# Altium footprint library QFN_TQFN_VQFN_LGA_LLC_LFCSP.PcbLib: 23 footprints (part 1 of 2)
Each footprint in its own frame and in the unit in brackets; x right, y up, seen from the top. Pads: shape width x height; smd on the part's side, far side on the other; paste and mask are expansions set on the pad; w line width, h text height; cw(c..) or ccw(c..) is an arc to the next point about the centre after c.
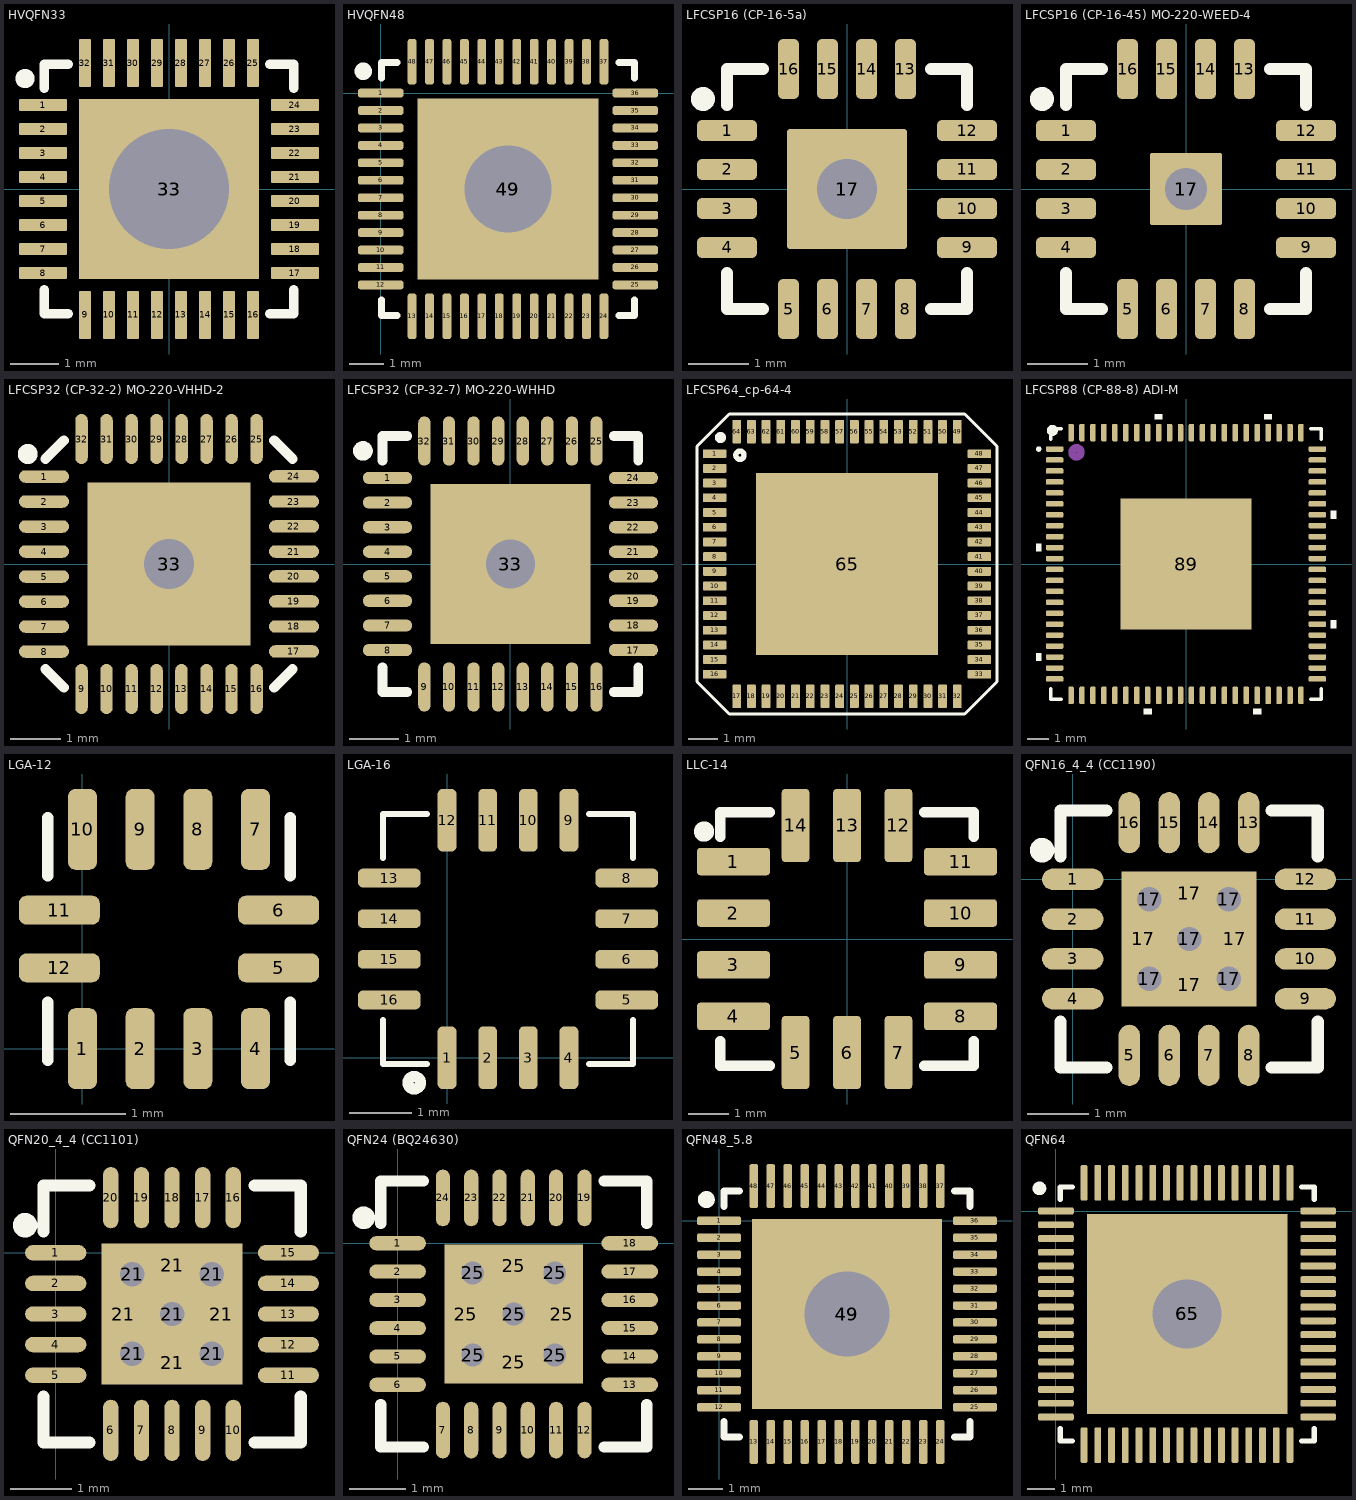
[diagram p0: the footprints below, top view; thin cyan lines are the x and y axes]

## HVQFN33 [mm]
height 1
pads (34):
  rrect25% 1x0.25 smd: 1(-2.625,1.75) 2(-2.625,1.25) 3(-2.625,0.75) 4(-2.625,0.25) 5(-2.625,-0.25) 6(-2.625,-0.75) 7(-2.625,-1.25) 8(-2.625,-1.75) 17(2.625,-1.75) 18(2.625,-1.25) 19(2.625,-0.75) 20(2.625,-0.25) 21(2.625,0.25) 22(2.625,0.75) 23(2.625,1.25) 24(2.625,1.75)
  rrect25% 0.25x1 smd: 9(-1.75,-2.625) 10(-1.25,-2.625) 11(-0.75,-2.625) 12(-0.25,-2.625) 13(0.25,-2.625) 14(0.75,-2.625) 15(1.25,-2.625) 16(1.75,-2.625) 25(1.75,2.625) 26(1.25,2.625) 27(0.75,2.625) 28(0.25,2.625) 29(-0.25,2.625) 30(-0.75,2.625) 31(-1.25,2.625) 32(-1.75,2.625)
  rect 3.75x3.75 smd: 33(0,0)
  round 3 hole 2.5: 33(0,0)
Top Overlay:
  circle w0.2: c-3,2.3 r0.1
  lines w0.2: -2.6,-2.1 -2.6,-2.6 -2.1,-2.6 ; -2.6,2.1 -2.6,2.6 -2.1,2.6 ; 2.1,-2.6 2.6,-2.6 2.6,-2.1 ; 2.1,2.6 2.6,2.6 2.6,2.1
Top Assembly:
  text ".Designator" at -4.998,-0.333 h1
3D body "SW3dPS-HVQFN-32.STEP": height 0.97, standoff -0.03, extent -2.5,-2.5 2.5,2.5

## HVQFN48 [mm] "SOT619-1, plastic thermal enhanced very thin quad flat package; no leads;  48 terminals; body 7 x 7 x 0.85 mm"
height 0.85
pads (50):
  rrect50% 1.3x0.25 smd: 1(0,0) 2(0,-0.5) 3(0,-1) 4(0,-1.5) 5(0,-2) 6(0,-2.5) 7(0,-3) 8(0,-3.5) 9(0,-4) 10(0,-4.5) 11(0,-5) 12(0,-5.5) 25(7.3,-5.5) 26(7.3,-5) 27(7.3,-4.5) 28(7.3,-4) 29(7.3,-3.5) 30(7.3,-3) 31(7.3,-2.5) 32(7.3,-2) 33(7.3,-1.5) 34(7.3,-1) 35(7.3,-0.5) 36(7.3,0)
  rrect50% 0.25x1.3 smd: 13(0.9,-6.4) 14(1.4,-6.4) 15(1.9,-6.4) 16(2.4,-6.4) 17(2.9,-6.4) 18(3.4,-6.4) 19(3.9,-6.4) 20(4.4,-6.4) 21(4.9,-6.4) 22(5.4,-6.4) 23(5.9,-6.4) 24(6.4,-6.4) 37(6.4,0.9) 38(5.9,0.9) 39(5.4,0.9) 40(4.9,0.9) 41(4.4,0.9) 42(3.9,0.9) 43(3.4,0.9) 44(2.9,0.9) 45(2.4,0.9) 46(1.9,0.9) 47(1.4,0.9) 48(0.9,0.9)
  rect 5.2x5.2 smd: 49(3.65,-2.75)
  round 3 hole 2.5: 49(3.65,-2.75)
Top Overlay:
  circle w0.25: c-0.5,0.625 r0.125
  lines w0.2: 0.025,-5.925 0.025,-6.375 0.475,-6.375 ; 0.025,0.425 0.025,0.875 0.475,0.875 ; 6.825,-6.375 7.275,-6.375 7.275,-5.925 ; 6.825,0.875 7.275,0.875 7.275,0.425
Top Assembly:
  text ".Designator" at -1.348,-3.083 h1
3D body "User Library-QFN_48.STEP": height 1.1, standoff 0, extent 0.15,-6.25 7.15,0.75

## LFCSP16 (CP-16-5a) [mm]
height 1.5
pads (18):
  rrect50% 1x0.35 smd: 1(-2,0.975) 2(-2,0.325) 3(-2,-0.325) 4(-2,-0.975) 9(2,-0.975) 10(2,-0.325) 11(2,0.325) 12(2,0.975)
  rrect50% 0.35x1 smd: 5(-0.975,-2) 6(-0.325,-2) 7(0.325,-2) 8(0.975,-2) 13(0.975,2) 14(0.325,2) 15(-0.325,2) 16(-0.975,2)
  rrect5% 2x2 smd: 17(0,0)
  round 1.5 hole 1: 17(0,0)
Top Overlay:
  circle w0.2: c-2.4,1.5 r0.1
  lines w0.2: -2,-1.4 -2,-2 -1.4,-2 ; -2,1.4 -2,2 -1.4,2 ; 1.4,-2 2,-2 2,-1.4 ; 1.4,2 2,2 2,1.4
Top Assembly:
  text ".Designator" at -4.998,-0.333 h1
3D body "SW3dPS-ADXL330.STEP": height 1.48, standoff 0, extent -2.01,-2.005 2,2.005

## LFCSP16 (CP-16-45) MO-220-WEED-4 [mm]
height 1.5
pads (18):
  rrect50% 1x0.35 smd: 1(-2,0.975) 2(-2,0.325) 3(-2,-0.325) 4(-2,-0.975) 9(2,-0.975) 10(2,-0.325) 11(2,0.325) 12(2,0.975)
  rrect50% 0.35x1 smd: 5(-0.975,-2) 6(-0.325,-2) 7(0.325,-2) 8(0.975,-2) 13(0.975,2) 14(0.325,2) 15(-0.325,2) 16(-0.975,2)
  rrect5% 1.2x1.2 smd: 17(0,0)
  round 1.2 hole 0.7: 17(0,0)
Top Overlay:
  circle w0.2: c-2.4,1.5 r0.1
  lines w0.2: -2,-1.4 -2,-2 -1.4,-2 ; -2,1.4 -2,2 -1.4,2 ; 1.4,-2 2,-2 2,-1.4 ; 1.4,2 2,2 2,1.4
Top Assembly:
  text ".Designator" at -4.998,-0.333 h1
3D body "SW3dPS-ADXL330.STEP": height 1.48, standoff 0, extent -2.01,-2.005 2,2.005

## LFCSP32 (CP-32-2) MO-220-VHHD-2 [mm]
height 1
pads (34):
  rrect100% 1x0.25 smd: 1(-2.5,1.75) 2(-2.5,1.25) 3(-2.5,0.75) 4(-2.5,0.25) 5(-2.5,-0.25) 6(-2.5,-0.75) 7(-2.5,-1.25) 8(-2.5,-1.75) 17(2.5,-1.75) 18(2.5,-1.25) 19(2.5,-0.75) 20(2.5,-0.25) 21(2.5,0.25) 22(2.5,0.75) 23(2.5,1.25) 24(2.5,1.75)
  rrect100% 0.25x1 smd: 9(-1.75,-2.5) 10(-1.25,-2.5) 11(-0.75,-2.5) 12(-0.25,-2.5) 13(0.25,-2.5) 14(0.75,-2.5) 15(1.25,-2.5) 16(1.75,-2.5) 25(1.75,2.5) 26(1.25,2.5) 27(0.75,2.5) 28(0.25,2.5) 29(-0.25,2.5) 30(-0.75,2.5) 31(-1.25,2.5) 32(-1.75,2.5)
  rect 3.25x3.25 smd: 33(0,0)
  round 1.5 hole 1: 33(0,0)
Top Overlay:
  circle w0.2: c-2.825,2.2 r0.1
  lines w0.2: -2.475,-2.1 -2.1,-2.475 ; -2.475,2.1 -2.1,2.475 ; 2.1,-2.475 2.475,-2.1 ; 2.1,2.475 2.475,2.1
Top Assembly:
  text ".Designator" at -4.998,-0.333 h1
3D body "SW3dPS-LFCSP-32.STEP": height 0.89, standoff -0.04, extent -2.51,-2.51 2.51,2.51

## LFCSP32 (CP-32-7) MO-220-WHHD [mm]
height 1
pads (34):
  rrect100% 1x0.25 smd: 1(-2.5,1.75) 2(-2.5,1.25) 3(-2.5,0.75) 4(-2.5,0.25) 5(-2.5,-0.25) 6(-2.5,-0.75) 7(-2.5,-1.25) 8(-2.5,-1.75) 17(2.5,-1.75) 18(2.5,-1.25) 19(2.5,-0.75) 20(2.5,-0.25) 21(2.5,0.25) 22(2.5,0.75) 23(2.5,1.25) 24(2.5,1.75)
  rrect100% 0.25x1 smd: 9(-1.75,-2.5) 10(-1.25,-2.5) 11(-0.75,-2.5) 12(-0.25,-2.5) 13(0.25,-2.5) 14(0.75,-2.5) 15(1.25,-2.5) 16(1.75,-2.5) 25(1.75,2.5) 26(1.25,2.5) 27(0.75,2.5) 28(0.25,2.5) 29(-0.25,2.5) 30(-0.75,2.5) 31(-1.25,2.5) 32(-1.75,2.5)
  rect 3.25x3.25 smd: 33(0,0)
  round 1.5 hole 1: 33(0,0)
Top Overlay:
  circle w0.2: c-3,2.3 r0.1
  lines w0.2: -2.6,-2.1 -2.6,-2.6 -2.1,-2.6 ; -2.6,2.1 -2.6,2.6 -2.1,2.6 ; 2.1,-2.6 2.6,-2.6 2.6,-2.1 ; 2.1,2.6 2.6,2.6 2.6,2.1
Top Assembly:
  text ".Designator" at -4.998,-0.333 h1
3D body "SW3dPS-HVQFN-32.STEP": height 0.97, standoff -0.03, extent -2.5,-2.5 2.5,2.5

## LFCSP64_cp-64-4 [mm]
height 1
pads (65):
  rrect25% 0.8x0.3 smd: 1(-4.5,3.75) 2(-4.5,3.25) 3(-4.5,2.75) 4(-4.5,2.25) 5(-4.5,1.75) 6(-4.5,1.25) 7(-4.5,0.75) 8(-4.5,0.25) 9(-4.5,-0.25) 10(-4.5,-0.75) 11(-4.5,-1.25) 12(-4.5,-1.75) 13(-4.5,-2.25) 14(-4.5,-2.75) 15(-4.5,-3.25) 16(-4.5,-3.75) 33(4.5,-3.75) 34(4.5,-3.25) 35(4.5,-2.75) 36(4.5,-2.25) 37(4.5,-1.75) 38(4.5,-1.25) 39(4.5,-0.75) 40(4.5,-0.25) 41(4.5,0.25) 42(4.5,0.75) 43(4.5,1.25) 44(4.5,1.75) 45(4.5,2.25) 46(4.5,2.75) 47(4.5,3.25) 48(4.5,3.75)
  rrect25% 0.3x0.8 smd: 17(-3.75,-4.5) 18(-3.25,-4.5) 19(-2.75,-4.5) 20(-2.25,-4.5) 21(-1.75,-4.5) 22(-1.25,-4.5) 23(-0.75,-4.5) 24(-0.25,-4.5) 25(0.25,-4.5) 26(0.75,-4.5) 27(1.25,-4.5) 28(1.75,-4.5) 29(2.25,-4.5) 30(2.75,-4.5) 31(3.25,-4.5) 32(3.75,-4.5) 49(3.75,4.5) 50(3.25,4.5) 51(2.75,4.5) 52(2.25,4.5) 53(1.75,4.5) 54(1.25,4.5) 55(0.75,4.5) 56(0.25,4.5) 57(-0.25,4.5) 58(-0.75,4.5) 59(-1.25,4.5) 60(-1.75,4.5) 61(-2.25,4.5) 62(-2.75,4.5) 63(-3.25,4.5) 64(-3.75,4.5)
  rect 6.2x6.2 smd: 65(0,0)
Top Overlay:
  circle w0.178: c-3.641,3.7 r0.141
  circle w0.178: c-4.3,4.3 r0.1
  lines w0.1: -5.1,-4 -5.1,4 -4,5.1 4,5.1 5.1,4 5.1,-4 4,-5.1 -4,-5.1 -5.1,-4
Top Assembly:
  text ".Designator" at -4.998,-0.333 h1
3D body "SW3dPS-LFCSP-64 AD9984AKCPZ-170.STEP": height 0.82, standoff -0.05, extent -4.5,-4.5 4.5,4.5

## LFCSP88 (CP-88-8) ADI-M [mm]
pads (89):
  rrect50% 0.8x0.25 smd paste+0 mask+0: 1(-6,5.25) 2(-6,4.75) 3(-6,4.25) 4(-6,3.75) 5(-6,3.25) 6(-6,2.75) 7(-6,2.25) 8(-6,1.75) 9(-6,1.25) 10(-6,0.75) 11(-6,0.25) 12(-6,-0.25) 13(-6,-0.75) 14(-6,-1.25) 15(-6,-1.75) 16(-6,-2.25) 17(-6,-2.75) 18(-6,-3.25) 19(-6,-3.75) 20(-6,-4.25) 21(-6,-4.75) 22(-6,-5.25) 45(6,-5.25) 46(6,-4.75) 47(6,-4.25) 48(6,-3.75) 49(6,-3.25) 50(6,-2.75) 51(6,-2.25) 52(6,-1.75) 53(6,-1.25) 54(6,-0.75) 55(6,-0.25) 56(6,0.25) 57(6,0.75) 58(6,1.25) 59(6,1.75) 60(6,2.25) 61(6,2.75) 62(6,3.25) 63(6,3.75) 64(6,4.25) 65(6,4.75) 66(6,5.25)
  rrect50% 0.25x0.8 smd paste+0 mask+0: 23(-5.25,-6) 24(-4.75,-6) 25(-4.25,-6) 26(-3.75,-6) 27(-3.25,-6) 28(-2.75,-6) 29(-2.25,-6) 30(-1.75,-6) 31(-1.25,-6) 32(-0.75,-6) 33(-0.25,-6) 34(0.25,-6) 35(0.75,-6) 36(1.25,-6) 37(1.75,-6) 38(2.25,-6) 39(2.75,-6) 40(3.25,-6) 41(3.75,-6) 42(4.25,-6) 43(4.75,-6) 44(5.25,-6) 67(5.25,6) 68(4.75,6) 69(4.25,6) 70(3.75,6) 71(3.25,6) 72(2.75,6) 73(2.25,6) 74(1.75,6) 75(1.25,6) 76(0.75,6) 77(0.25,6) 78(-0.25,6) 79(-0.75,6) 80(-1.25,6) 81(-1.75,6) 82(-2.25,6) 83(-2.75,6) 84(-3.25,6) 85(-3.75,6) 86(-4.25,6) 87(-4.75,6) 88(-5.25,6)
  rect 6x6 smd paste-2.997 mask+0: 89(0,0)
Top Overlay:
  circle w0.25: c-6.1,6.1 r0.125
  circle w0.15: c-6.726,5.25 r0.05
  region: -6.6,0.925 -6.85,0.925 -6.85,0.575 -6.6,0.575
  region: -6.6,-4.075 -6.85,-4.075 -6.85,-4.425 -6.6,-4.425
  region: -1.925,-6.6 -1.925,-6.85 -1.575,-6.85 -1.575,-6.6
  region: 3.075,-6.6 3.075,-6.85 3.425,-6.85 3.425,-6.6
  region: 6.6,-2.925 6.85,-2.925 6.85,-2.575 6.6,-2.575
  region: 6.6,2.075 6.85,2.075 6.85,2.425 6.6,2.425
  region: 3.925,6.6 3.925,6.85 3.575,6.85 3.575,6.6
  region: -1.075,6.6 -1.075,6.85 -1.425,6.85 -1.425,6.6
  lines w0.152: -6.172,-5.697 -6.172,-6.172 -5.697,-6.172 ; -6.172,5.697 -6.172,6.172 -5.697,6.172 ; 5.697,-6.172 6.172,-6.172 6.172,-5.697 ; 5.697,6.172 6.172,6.172 6.172,5.697
Top Paste:
  region: 2.897,-1.599 1.599,-1.599 1.599,-2.897 2.897,-2.897
  region: 2.897,-0.1 1.599,-0.1 1.599,-1.399 2.897,-1.399
  region: 2.897,1.399 1.599,1.399 1.599,0.1 2.897,0.1
  region: 2.897,2.897 1.599,2.897 1.599,1.599 2.897,1.599
  region: 1.399,-1.599 0.1,-1.599 0.1,-2.897 1.399,-2.897
  region: 1.399,-0.1 0.1,-0.1 0.1,-1.399 1.399,-1.399
  region: 1.399,1.399 0.1,1.399 0.1,0.1 1.399,0.1
  region: 1.399,2.897 0.1,2.897 0.1,1.599 1.399,1.599
  region: -0.1,-1.599 -1.399,-1.599 -1.399,-2.897 -0.1,-2.897
  region: -0.1,-0.1 -1.399,-0.1 -1.399,-1.399 -0.1,-1.399
  region: -0.1,1.399 -1.399,1.399 -1.399,0.1 -0.1,0.1
  region: -0.1,2.897 -1.399,2.897 -1.399,1.599 -0.1,1.599
  region: -1.599,-1.599 -2.897,-1.599 -2.897,-2.897 -1.599,-2.897
  region: -1.599,-0.1 -2.897,-0.1 -2.897,-1.399 -1.599,-1.399
  region: -1.599,1.399 -2.897,1.399 -2.897,0.1 -1.599,0.1
  region: -1.599,2.897 -2.897,2.897 -2.897,1.599 -1.599,1.599
Top Assembly:
  circle w0.35: c-5,5.1 r0.2
  text ".Designator" at -4.998,-0.333 h1
3D body "LFCSP_VQ88(CP-88-5).STEP": height 0.8, standoff 0, extent -6.01,-6.01 6.05,6.05

## LGA-12 [mm]
height 1
pads (12):
  rrect50% 0.25x0.7 smd: 1(0,0) 2(0.5,0) 3(1,0) 4(1.5,0) 7(1.5,1.9) 8(1,1.9) 9(0.5,1.9) 10(0,1.9)
  rrect50% 0.7x0.25 smd: 5(1.7,0.7) 6(1.7,1.2) 11(-0.2,1.2) 12(-0.2,0.7)
Top Overlay:
  lines w0.1: -0.3,-0.1 -0.3,0.4 ; -0.3,1.5 -0.3,2 ; 1.8,-0.1 1.8,0.4 ; 1.8,1.5 1.8,2
Top Assembly:
  text ".Designator" at -4.298,-1.533 h1

## LGA-16 [mm]
height 1
pads (16):
  rrect50% 0.3x1 smd: 1(0,0) 2(0.65,0) 3(1.3,0) 4(1.95,0) 9(1.95,3.8) 10(1.3,3.8) 11(0.65,3.8) 12(0,3.8)
  rrect50% 1x0.3 smd: 5(2.875,0.925) 6(2.875,1.575) 7(2.875,2.225) 8(2.875,2.875) 13(-0.925,2.875) 14(-0.925,2.225) 15(-0.925,1.575) 16(-0.925,0.925)
Top Overlay:
  circle w0.178: c-0.525,-0.4 r0.1
  lines w0.1: -1.025,0.6 -1.025,-0.1 -0.325,-0.1 ; -1.025,3.2 -1.025,3.9 -0.325,3.9 ; 2.275,-0.1 2.975,-0.1 2.975,0.6 ; 2.275,3.9 2.975,3.9 2.975,3.2
Top Assembly:
  text ".Designator" at -3.998,1.567 h1
3D body "User Library-LGA-16.STEP": height 0.98, standoff 0, extent -1.025,-0.1 2.975,3.9

## LLC-14 [mm] "ADXL354/355 MEMS accelerometer"
height 2.05
pads (14):
  rrect25% 1.8x0.68 smd: 1(-2.8,1.91) 2(-2.8,0.64) 3(-2.8,-0.64) 4(-2.8,-1.91) 8(2.8,-1.91) 9(2.8,-0.64) 10(2.8,0.64) 11(2.8,1.91)
  rrect25% 0.68x1.8 smd: 5(-1.27,-2.8) 6(0,-2.8) 7(1.27,-2.8) 12(1.27,2.8) 13(0,2.8) 14(-1.27,2.8)
Top Overlay:
  circle w0.3: c-3.525,2.65 r0.1
  lines w0.254: -3.125,-2.525 -3.125,-3.125 -1.9,-3.125 ; -3.125,2.525 -3.125,3.125 -1.9,3.125 ; 1.9,-3.125 3.125,-3.125 3.125,-2.525 ; 1.9,3.125 3.125,3.125 3.125,2.525
Top Assembly:
  text ".Designator" at -4.998,-0.333 h1
3D body "User Library-ADXL354B.STEP": height 2.2, standoff -0.01, extent -3.003,-3.002 3.003,3

## QFN16_4_4 (CC1190) [mm]
height 0.102
pads (25):
  oval 1x0.35 smd: 1(0,0) 2(0,-0.65) 3(0,-1.3) 4(0,-1.95) 9(3.8,-1.95) 10(3.8,-1.3) 11(3.8,-0.65) 12(3.8,0)
  oval 0.35x1 smd: 5(0.925,-2.875) 6(1.575,-2.875) 7(2.225,-2.875) 8(2.875,-2.875) 13(2.875,0.925) 14(2.225,0.925) 15(1.575,0.925) 16(0.925,0.925)
  rect 0.7x0.5 smd: 17(1.15,-0.975) 17(2.65,-0.975)
  rect 0.9x0.9 hole 0.4: 17(1.25,-1.625) 17(1.25,-0.325) 17(1.9,-0.975) 17(2.55,-1.625) 17(2.55,-0.325)
  rect 0.5x0.7 smd: 17(1.9,-1.725) 17(1.9,-0.225)
Top Overlay:
  circle w0.2: c-0.5,0.475 r0.1
  lines w0.2: -0.2,-2.325 -0.2,-3.075 0.55,-3.075 ; -0.2,0.375 -0.2,1.125 0.55,1.125 ; 3.25,-3.075 4,-3.075 4,-2.325 ; 3.25,1.125 4,1.125 4,0.375
Top Paste:
  region: 2.05,-2.02 2.95,-2.02 2.95,-1.12 2.05,-1.12
  region: 2.05,-0.82 2.95,-0.82 2.95,0.08 2.05,0.08
  region: 0.85,-0.82 1.75,-0.82 1.75,0.08 0.85,0.08
  region: 0.85,-2.02 1.75,-2.02 1.75,-1.12 0.85,-1.12
Top Assembly:
  text ".Designator" at -3.098,-1.333 h1
3D body "QFN16_4_4.STEP": height 0.85, standoff 0, extent -0.1,-2.975 3.902,1.027

## QFN20_4_4 (CC1101) [mm]
height 0.102
pads (29):
  oval 1x0.25 smd: 1(0,0) 2(0,-0.5) 3(0,-1) 4(0,-1.5) 5(0,-2) 11(3.8,-2) 12(3.8,-1.5) 13(3.8,-1) 14(3.8,-0.5) 15(3.8,0)
  oval 0.25x1 smd: 6(0.9,-2.9) 7(1.4,-2.9) 8(1.9,-2.9) 9(2.4,-2.9) 10(2.9,-2.9) 16(2.9,0.9) 17(2.4,0.9) 18(1.9,0.9) 19(1.4,0.9) 20(0.9,0.9)
  rect 0.7x0.4 smd: 21(1.1,-1) 21(2.7,-1)
  rect 1x1 hole 0.4: 21(1.25,-1.65) 21(1.25,-0.35) 21(1.9,-1) 21(2.55,-1.65) 21(2.55,-0.35)
  rect 0.4x0.7 smd: 21(1.9,-1.8) 21(1.9,-0.2)
Top Overlay:
  circle w0.2: c-0.5,0.45 r0.1
  lines w0.2: -0.2,-2.35 -0.2,-3.1 0.55,-3.1 ; -0.2,0.35 -0.2,1.1 0.55,1.1 ; 3.25,-3.1 4,-3.1 4,-2.35 ; 3.25,1.1 4,1.1 4,0.35
Top Paste:
  region: 2.05,-2.02 2.95,-2.02 2.95,-1.12 2.05,-1.12
  region: 2.05,-0.82 2.95,-0.82 2.95,0.08 2.05,0.08
  region: 0.85,-0.82 1.75,-0.82 1.75,0.08 0.85,0.08
  region: 0.85,-2.02 1.75,-2.02 1.75,-1.12 0.85,-1.12
Top Assembly:
  text ".Designator" at -3.098,-1.333 h1
3D body "QFN20_4x4x0_8.STEP": height 0.78, standoff -0.02, extent -0.11,-3.01 3.91,1.01

## QFN24 (BQ24630) [mm]
height 0.102
pads (33):
  oval 1x0.25 smd: 1(0,0) 2(0,-0.5) 3(0,-1) 4(0,-1.5) 5(0,-2) 6(0,-2.5) 13(4.1,-2.5) 14(4.1,-2) 15(4.1,-1.5) 16(4.1,-1) 17(4.1,-0.5) 18(4.1,0)
  oval 0.25x1 smd: 7(0.8,-3.3) 8(1.3,-3.3) 9(1.8,-3.3) 10(2.3,-3.3) 11(2.8,-3.3) 12(3.3,-3.3) 19(3.3,0.8) 20(2.8,0.8) 21(2.3,0.8) 22(1.8,0.8) 23(1.3,0.8) 24(0.8,0.8)
  rect 0.75x0.5 smd: 25(1.2,-1.25)
  rect 1x1 hole 0.4: 25(1.325,-1.975) 25(1.325,-0.525) 25(2.05,-1.25) 25(2.775,-1.975) 25(2.775,-0.525)
  rect 0.5x0.75 smd mask+0.102: 25(2.05,-2.1) 25(2.05,-0.4)
  rect 0.75x0.5 smd mask+0.102: 25(2.9,-1.25)
Top Overlay:
  circle w0.2: c-0.6,0.45 r0.1
  lines w0.2: -0.3,-2.85 -0.3,-3.6 0.45,-3.6 ; -0.3,0.35 -0.3,1.1 0.45,1.1 ; 3.65,-3.6 4.4,-3.6 4.4,-2.85 ; 3.65,1.1 4.4,1.1 4.4,0.35
Top Paste:
  region: 2.05,-2.02 2.95,-2.02 2.95,-1.12 2.05,-1.12
  region: 2.05,-0.82 2.95,-0.82 2.95,0.08 2.05,0.08
  region: 0.85,-0.82 1.75,-0.82 1.75,0.08 0.85,0.08
  region: 0.85,-2.02 1.75,-2.02 1.75,-1.12 0.85,-1.12
Top Assembly:
  text ".Designator" at -2.998,-1.633 h1

## QFN48_5.8 [mm] "QFN, 64-Leads, Body 9x9mm, Pitch 0.5mm, Thermal Pad 7.3x7.3mm, IPC Low Density"
height 1
pads (50):
  rrect50% 1.3x0.25 smd: 1(0,0) 2(0,-0.5) 3(0,-1) 4(0,-1.5) 5(0,-2) 6(0,-2.5) 7(0,-3) 8(0,-3.5) 9(0,-4) 10(0,-4.5) 11(0,-5) 12(0,-5.5) 25(7.55,-5.5) 26(7.55,-5) 27(7.55,-4.5) 28(7.55,-4) 29(7.55,-3.5) 30(7.55,-3) 31(7.55,-2.5) 32(7.55,-2) 33(7.55,-1.5) 34(7.55,-1) 35(7.55,-0.5) 36(7.55,0)
  rrect50% 0.25x1.3 smd: 13(1.025,-6.525) 14(1.525,-6.525) 15(2.025,-6.525) 16(2.525,-6.525) 17(3.025,-6.525) 18(3.525,-6.525) 19(4.025,-6.525) 20(4.525,-6.525) 21(5.025,-6.525) 22(5.525,-6.525) 23(6.025,-6.525) 24(6.525,-6.525) 37(6.525,1.025) 38(6.025,1.025) 39(5.525,1.025) 40(5.025,1.025) 41(4.525,1.025) 42(4.025,1.025) 43(3.525,1.025) 44(3.025,1.025) 45(2.525,1.025) 46(2.025,1.025) 47(1.525,1.025) 48(1.025,1.025)
  rect 5.6x5.6 smd: 49(3.775,-2.75)
  round 3 hole 2.5: 49(3.775,-2.75)
Top Overlay:
  circle w0.25: c-0.375,0.625 r0.125
  lines w0.2: 0.15,-5.925 0.15,-6.375 0.6,-6.375 ; 0.15,0.425 0.15,0.875 0.6,0.875 ; 6.95,-6.375 7.4,-6.375 7.4,-5.925 ; 6.95,0.875 7.4,0.875 7.4,0.425
Top Assembly:
  text ".Designator" at -1.223,-3.083 h1
3D body "User Library-QFN_48.STEP": height 1, standoff -0.1, extent 0.25,-6.25 7.25,0.75

## QFN64 [mm] "QFN, 64-Leads, Body 9x9mm, Pitch 0.5mm, Thermal Pad 7.3x7.3mm, IPC Low Density"
height 1
pads (66):
  rrect50% 1.3x0.25 smd: 1(0,0) 2(0,-0.5) 3(0,-1) 4(0,-1.5) 5(0,-2) 6(0,-2.5) 7(0,-3) 8(0,-3.5) 9(0,-4) 10(0,-4.5) 11(0,-5) 12(0,-5.5) 13(0,-6) 14(0,-6.5) 15(0,-7) 16(0,-7.5) 33(9.55,-7.5) 34(9.55,-7) 35(9.55,-6.5) 36(9.55,-6) 37(9.55,-5.5) 38(9.55,-5) 39(9.55,-4.5) 40(9.55,-4) 41(9.55,-3.5) 42(9.55,-3) 43(9.55,-2.5) 44(9.55,-2) 45(9.55,-1.5) 46(9.55,-1) 47(9.55,-0.5) 48(9.55,0)
  rrect50% 0.25x1.3 smd: 17(1.025,-8.525) 18(1.525,-8.525) 19(2.025,-8.525) 20(2.525,-8.525) 21(3.025,-8.525) 22(3.525,-8.525) 23(4.025,-8.525) 24(4.525,-8.525) 25(5.025,-8.525) 26(5.525,-8.525) 27(6.025,-8.525) 28(6.525,-8.525) 29(7.025,-8.525) 30(7.525,-8.525) 31(8.025,-8.525) 32(8.525,-8.525) 49(8.525,1.025) 50(8.025,1.025) 51(7.525,1.025) 52(7.025,1.025) 53(6.525,1.025) 54(6.025,1.025) 55(5.525,1.025) 56(5.025,1.025) 57(4.525,1.025) 58(4.025,1.025) 59(3.525,1.025) 60(3.025,1.025) 61(2.525,1.025) 62(2.025,1.025) 63(1.525,1.025) 64(1.025,1.025)
  rect 7.3x7.3 smd: 65(4.775,-3.75)
  round 3 hole 2.5: 65(4.775,-3.75)
Top Overlay:
  circle w0.25: c-0.6,0.825 r0.125
  lines w0.2: 0.15,-7.925 0.15,-8.375 0.6,-8.375 ; 0.15,0.425 0.15,0.875 0.6,0.875 ; 8.95,-8.375 9.4,-8.375 9.4,-7.925 ; 8.95,0.875 9.4,0.875 9.4,0.425
Top Assembly:
  text ".Designator" at -0.223,-4.083 h1
3D body "User Library-QFN64-2.STEP": height 0.9, standoff 0, extent 0.255,-8.27 9.295,0.77